# EAGLE library part LCD_0802B (library __MyCommonLib1)
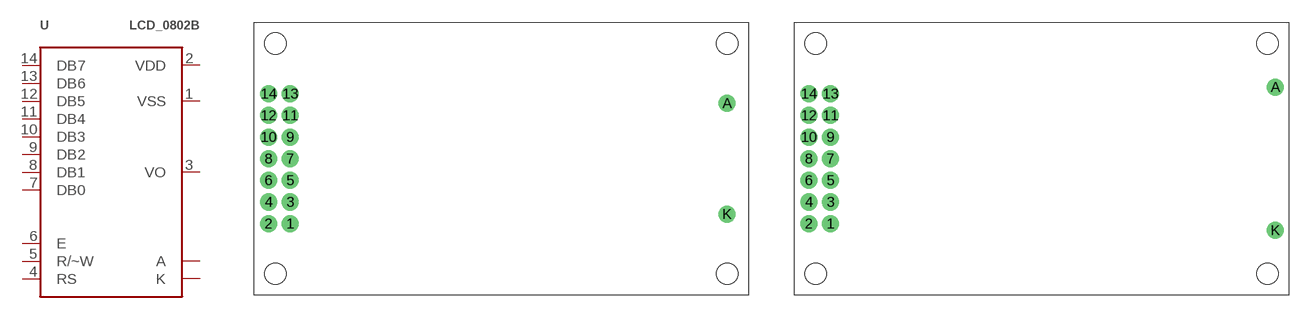
[diagram p24: symbol with the pads of LCD_0802B; footprints LCD_0802B, LCD_0802B(CHINA_CLONE)]

Designator prefix -

## LCD_0802B(0802B)  [LCD_0802B]
1  VSS
2  VDD
3  VO
4  RS
5  R/~W
6  E
7  DB0
8  DB1
9  DB2
10  DB3
11  DB4
12  DB5
13  DB6
14  DB7
A  A
K  K

## LCD_0802B(0802B_CHINA_CLONE)  [LCD_0802B(CHINA_CLONE)]
Pads as for LCD_0802B

## LCD_0802BLCD_0802B_2SCREW(CHINA_CLONE)  [LCD_0802B_2SCREW(CHINA_CLONE)]
Pads as for LCD_0802B

## Footprint LCD_0802B (pad centres in mm)
drill 1 pad 2: 1 4.24,8.38; 2 1.7,8.38; 3 4.24,10.92; 4 1.7,10.92; 5 4.24,13.46; 6 1.7,13.46; 7 4.24,16; 8 1.7,16; 9 4.24,18.54; 10 1.7,18.54; 11 4.24,21.08; 12 1.7,21.08; 13 4.24,23.62; 14 1.7,23.62; A 55.5,22.5; K 55.5,9.5
hole 2.5 at 2.5,2.5
hole 2.5 at 2.5,29.5
hole 2.5 at 55.5,29.5
hole 2.5 at 55.5,2.5

## Footprint LCD_0802B(CHINA_CLONE) (pad centres in mm)
drill 1 pad 2: 1 4.24,8.38; 2 1.7,8.38; 3 4.24,10.92; 4 1.7,10.92; 5 4.24,13.46; 6 1.7,13.46; 7 4.24,16; 8 1.7,16; 9 4.24,18.54; 10 1.7,18.54; 11 4.24,21.08; 12 1.7,21.08; 13 4.24,23.62; 14 1.7,23.62; A 56.44,24.4; K 56.44,7.6
hole 2.5 at 2.5,2.5
hole 2.5 at 2.5,29.5
hole 2.5 at 55.5,29.5
hole 2.5 at 55.5,2.5

## Footprint LCD_0802B_2SCREW(CHINA_CLONE) (pad centres in mm)
drill 0.9 pad 1.64 square: 1 4.24,8.38
drill 0.9 pad 1.64 octagon: 2 1.7,8.38; 3 4.24,10.92; 4 1.7,10.92; 5 4.24,13.46; 6 1.7,13.46; 7 4.24,16; 8 1.7,16; 9 4.24,18.54; 10 1.7,18.54; 11 4.24,21.08; 12 1.7,21.08; 13 4.24,23.62; 14 1.7,23.62
drill 1 pad 2 octagon: A 56.44,24.4; K 56.44,7.6
hole 2.5 at 55.5,29.5
hole 2.5 at 55.5,2.5